# Altium schematic symbol library Schlib1.SchLib: 53 symbols
Pins are listed as number, name and electrical type; pins without a type are passive.

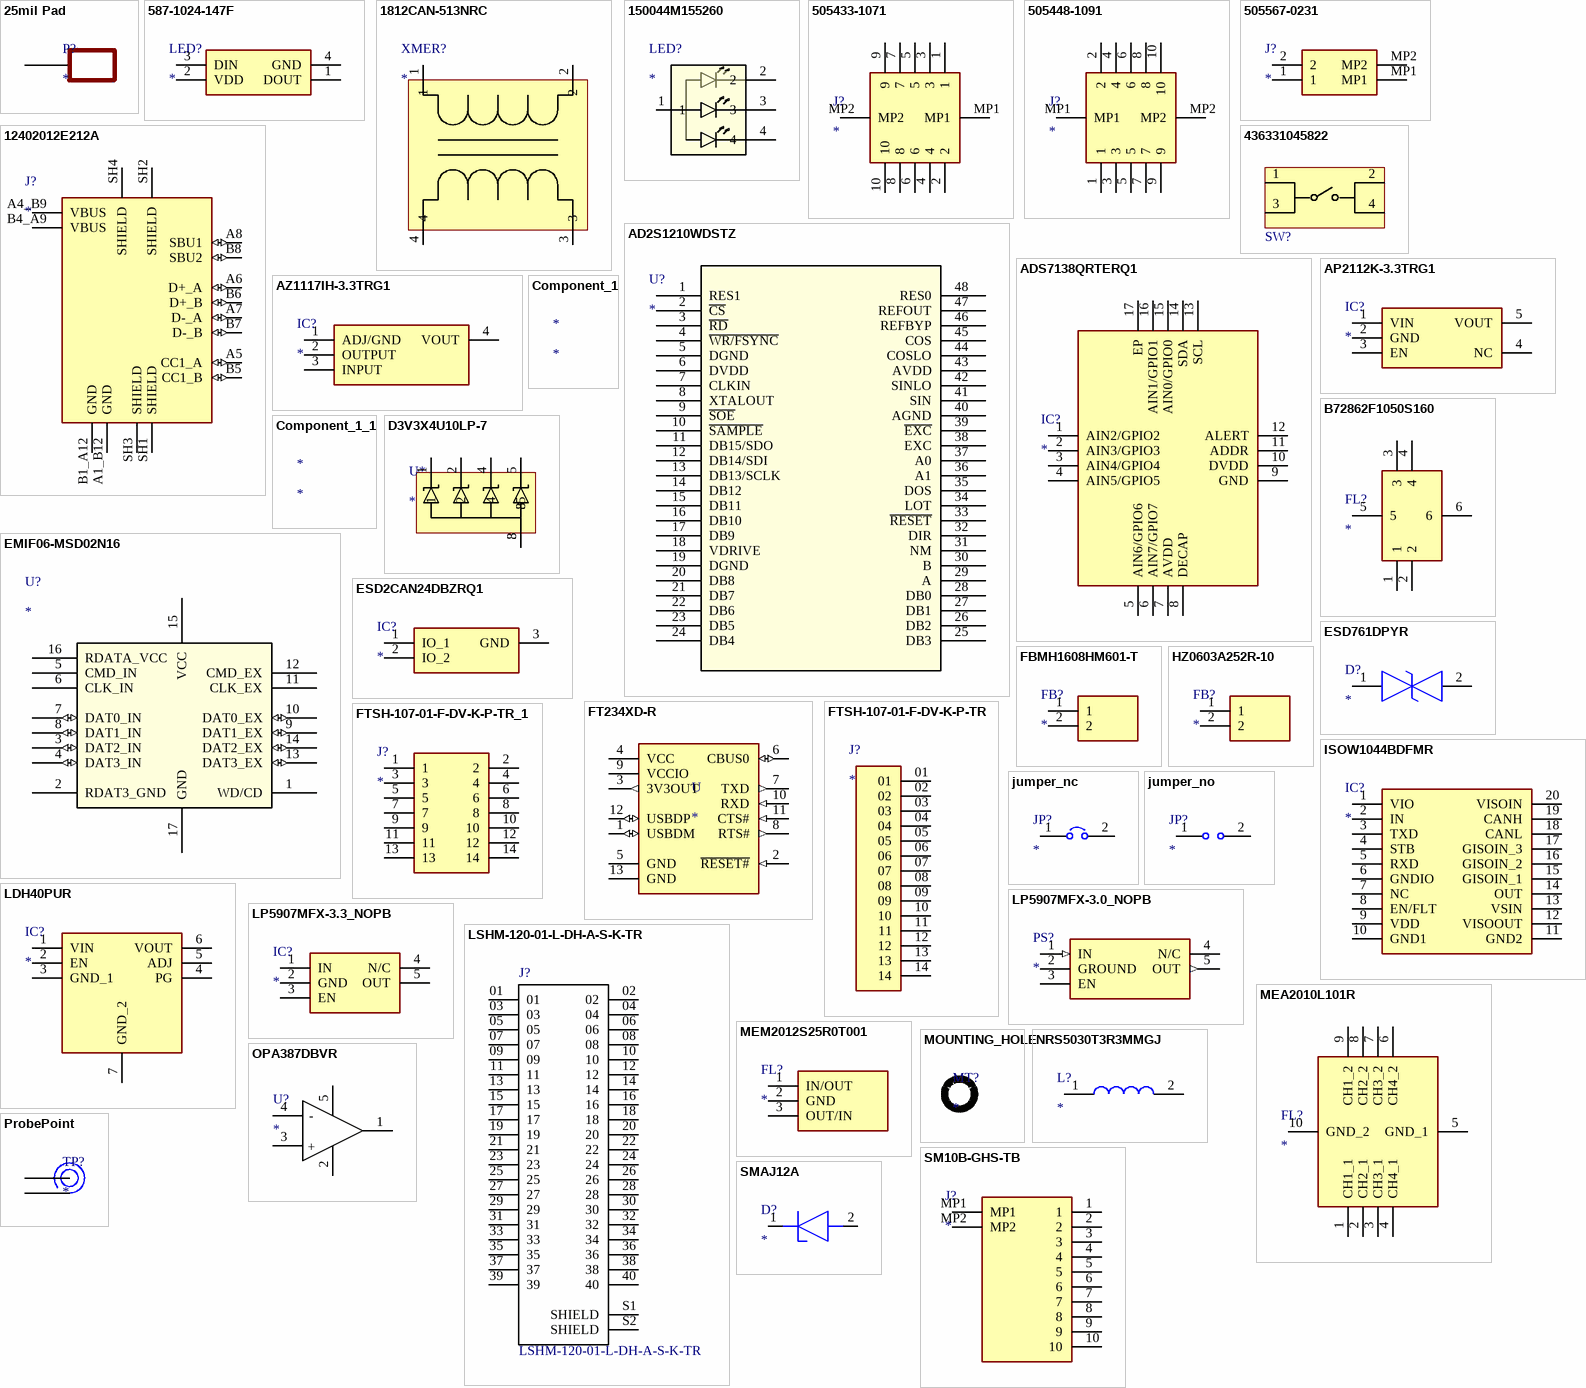
[diagram p0: symbols 25mil Pad to SMAJ12A]

## 25mil Pad
designator P?
footprint PAD
pins: 0

## 587-1024-147F
designator LED?
LED; Manufacturer_Name: Dialight; Manufacturer_Part_Number: 587-1024-147F; Datasheet Link: https://s3-us-west-2.amazonaws.com/catsy.557/Dialight_datasheet_587-1024-147F_Addressable_RGB.pdf; Height: 0.9mm
footprint 5871024147F
pins: 1 DOUT, 2 VDD, 3 DIN, 4 GND

## 1812CAN-513NRC
designator XMER?
No Description Available; Mfr_Name: Coilcraft; RefDes: RefDes; Type: Type
footprint XMER_1812CAN-513NRC_COC
pins: 1, 2, 3, 3, 3, 4

## 150044M155260
designator LED?
No Description Available; Mfr_Name: Wurth Electronics; RefDes: RefDes; Type: Type
footprint 150044M155260_WRE-L - duplicate
pins: 1, 2, 3, 4

## 505433-1071
designator J?
Connector; Manufacturer_Name: Molex; Manufacturer_Part_Number: 505433-1071; Datasheet Link: https://datasheet.datasheetarchive.com/originals/distributors/Datasheets_SAMA/5290a5563f9fde50455cc3ed2129c93a.pdf; Height: 7.25mm; Mouser Part Number: 538-505433-1071; Mouser Price/Stock: https://www.mouser.co.uk/ProductDetail/Molex/505433-1071?qs=gt1LBUVyoHnxbEZbXoNB2g%3D%3D
footprint 5054331071
pins: 1, 2, 3, 4, 5, 6, 7, 8, 9, 10, MP1, MP2

## 505448-1091
designator J?
Connector; Manufacturer_Name: Molex; Manufacturer_Part_Number: 505448-1091; Datasheet Link: https://www.molex.com/content/dam/molex/molex-dot-com/products/automated/en-us/salesdrawingpdf/505/505448/5054481091_sd.pdf; Height: 9.15mm; Mouser Part Number: 538-505448-1091; Mouser Price/Stock: https://www.mouser.co.uk/ProductDetail/Molex/505448-1091?qs=vmHwEFxEFR84Nb6AyJ3SnQ%3D%3D
footprint 5054481091
pins: 1, 2, 3, 4, 5, 6, 7, 8, 9, 10, MP1, MP2

## 505567-0231
designator J?
Connector; Manufacturer_Name: Molex; Manufacturer_Part_Number: 505567-0231; Datasheet Link: https://www.molex.com/pdm_docs/sd/5055670231_sd.pdf; Height: 4.1mm; Mouser Part Number: 538-505567-0231; Mouser Price/Stock: https://www.mouser.co.uk/ProductDetail/Molex/505567-0231?qs=vmHwEFxEFR9FgO9VigwN8A%3D%3D
footprint 5055670231
pins: 1, 2, MP1, MP2

## 12402012E212A
designator J?
USB2.0, Type C, Top mount, CH 1.68mm, Dual Row SMT; MP: 12402012E212A; MF: Amphenol ICC (Commercial Products); Price: None; Package: None; Availability: In Stock; SnapEDA_Link: https://www.snapeda.com/parts/12402012E212A/Amphenol/view-part/?ref=snap; Value: *; Check_prices: https://www.snapeda.com/parts/12402012E212A/Amphenol/view-part/?ref=eda; Purchase-URL: https://pricing.snapeda.com/search/part/12402012E212A/?ref=eda
footprint AMPHENOL_12402012E212A
pins: A1_B12 GND (power), A4_B9 VBUS (power), A5 CC1_A (io), A6 D+_A (io), A7 D-_A (io), A8 SBU1 (io), B1_A12 GND (power), B4_A9 VBUS (power), B5 CC1_B (io), B6 D+_B (io), B7 D-_B (io), B8 SBU2 (io), SH1 SHIELD, SH2 SHIELD, SH3 SHIELD, SH4 SHIELD

## 436331045822
designator SW?  (value not drawn)
footprint Wurth_0_MFG
pins: 1, 2, 3, 4

## AD2S1210WDSTZ
designator U?
No Description Available; Mfr_Name: Analog Devices Inc; RefDes: RefDes; Type: Type
footprint AD2S1210WDSTZ_ADI
pins: 1 RES1, 2 ~{CS}, 3 ~{RD}, 4 ~{WR/FSYNC}, 5 DGND, 6 DVDD, 7 CLKIN, 8 XTALOUT, 9 ~{SOE}, 10 ~{SAMPLE}, 11 DB15/SDO, 12 DB14/SDI, 13 DB13/SCLK, 14 DB12, 15 DB11, 16 DB10, 17 DB9, 18 VDRIVE, 19 DGND, 20 DB8, 21 DB7, 22 DB6, 23 DB5, 24 DB4, 25 DB3, 26 DB2, 27 DB1, 28 DB0, 29 A, 30 B, 31 NM, 32 DIR, 33 ~{RESET}, 34 LOT, 35 DOS, 36 A1, 37 A0, 38 EXC, 39 ~{EXC}, 40 AGND, 41 SIN, 42 SINLO, 43 AVDD, 44 COSLO, 45 COS, 46 REFBYP, 47 REFOUT, 48 RES0

## ADS7138QRTERQ1
designator IC?
Integrated Circuit; Manufacturer_Name: Texas Instruments; Manufacturer_Part_Number: ADS7138QRTERQ1; Datasheet Link: https://www.arrow.com/en/products/ads7138qrterq1/texas-instruments; Height: 0.8mm; Mouser Part Number: 595-ADS7138QRTERQ1; Mouser Price/Stock: https://www.mouser.co.uk/ProductDetail/Texas-Instruments/ADS7138QRTERQ1?qs=T94vaHKWudS4Tv1qZ6show%3D%3D; Arrow Part Number: ADS7138QRTERQ1; Arrow Price/Stock: https://www.arrow.com/en/products/ads7138qrterq1/texas-instruments?region=nac
footprint QFN50P300X300X80-17N-D
pins: 1 AIN2/GPIO2, 2 AIN3/GPIO3, 3 AIN4/GPIO4, 4 AIN5/GPIO5, 5 AIN6/GPIO6, 6 AIN7/GPIO7, 7 AVDD, 8 DECAP, 9 GND, 10 DVDD, 11 ADDR, 12 ALERT, 13 SCL, 14 SDA, 15 AIN0/GPIO0, 16 AIN1/GPIO1, 17 EP

## AP2112K-3.3TRG1
designator IC?
Integrated Circuit; Manufacturer_Name: Diodes Incorporated; Manufacturer_Part_Number: AP2112K-3.3TRG1; Datasheet Link: https://www.diodes.com//assets/Datasheets/AP2112.pdf; Height: 1.4mm; Mouser Part Number: 621-AP2112K-3.3TRG1; Mouser Price/Stock: https://www.mouser.co.uk/ProductDetail/Diodes-Incorporated/AP2112K-3.3TRG1?qs=x6A8l6qLYDDPYHosCdzh%2FA%3D%3D; Arrow Part Number: AP2112K-3.3TRG1; Arrow Price/Stock: https://www.arrow.com/en/products/ap2112k-3.3trg1/diodes-incorporated?region=europe
footprint SOT95P285X140-5N
pins: 1 VIN, 2 GND, 3 EN, 4 NC, 5 VOUT

## AZ1117IH-3.3TRG1
designator IC?
Integrated Circuit; Manufacturer_Name: Diodes Incorporated; Manufacturer_Part_Number: AZ1117IH-3.3TRG1; Datasheet Link: https://www.diodes.com//assets/Datasheets/AZ1117I.pdf; Height: 1.8mm; Mouser Part Number: 621-AZ1117IH-3.3TRG1; Mouser Price/Stock: https://www.mouser.co.uk/ProductDetail/Diodes-Incorporated/AZ1117IH-3.3TRG1?qs=cpo3%2FpBou2jnS4SxLgAVoA%3D%3D; Arrow Part Number: AZ1117IH-3.3TRG1; Arrow Price/Stock: https://www.arrow.com/en/products/az1117ih-3.3trg1/diodes-incorporated?utm_currency=USD&region=europe
footprint SOT230P700X180-4N
pins: 1 ADJ/GND, 2 OUTPUT, 3 INPUT, 4 VOUT

## B72862F1050S160
designator FL?
Filter; Manufacturer_Name: TDK; Manufacturer_Part_Number: B72862F1050S160; Datasheet Link: https://product.tdk.com/system/files/dam/doc/product/protection/voltage/varistor_ctvs/data_sheet/75/db/ctvs_14/esd_emi_filter_series.pdf; Height: 0.65mm
footprint B72862F1050S160
pins: 1, 2, 3, 4, 5, 6

## Component_1
designator *

## Component_1_1
designator *

## D3V3X4U10LP-7
designator U*
footprint DIO_DT1240-04LP-7
pins: 1, 2, 3, 4, 5, 8

## EMIF06-MSD02N16
designator U?
No Description Available; Mfr_Name: STMicroelectronics; RefDes: RefDes; Type: Type
footprint EMIF06MSD02N16
pins: 1 WD/CD, 2 RDAT3_GND (power), 3 DAT2_IN (io), 4 DAT3_IN (io), 5 CMD_IN, 6 CLK_IN, 7 DAT0_IN (io), 8 DAT1_IN (io), 9 DAT1_EX (io), 10 DAT0_EX (io), 11 CLK_EX, 12 CMD_EX, 13 DAT3_EX (io), 14 DAT2_EX (io), 15 VCC (power), 16 RDATA_VCC, 17 GND (power)

## ESD2CAN24DBZRQ1
designator IC?
Integrated Circuit; Manufacturer_Name: Texas Instruments; Manufacturer_Part_Number: ESD2CAN24DBZRQ1; Datasheet Link: https://www.ti.com/lit/ds/symlink/esd2can24-q1.pdf?ts=1669637432096&ref_url=https%253A%252F%252Fwww.ti.com%252Fproduct%252FESD2CAN24-Q1; Height: 1.12mm; Mouser Part Number: 595-ESD2CAN24DBZRQ1; Mouser Price/Stock: https://www.mouser.co.uk/ProductDetail/Texas-Instruments/ESD2CAN24DBZRQ1?qs=Y0Uzf4wQF3knJz9mU6BNuw%3D%3D; Arrow Part Number: ESD2CAN24DBZRQ1; Arrow Price/Stock: https://www.arrow.com/en/products/esd2can24dbzrq1/texas-instruments?utm_currency=USD&region=nac
footprint SOT95P237X112-3N
pins: 1 IO_1, 2 IO_2, 3 GND

## ESD761DPYR
designator D?
TVS Diode (Bi-directional); Manufacturer_Name: Texas Instruments; Manufacturer_Part_Number: ESD761DPYR; Datasheet Link: https://www.ti.com/lit/gpn/esd761; Height: 0.45mm; Mouser Part Number: 595-ESD761DPYR; Mouser Price/Stock: https://www.mouser.co.uk/ProductDetail/Texas-Instruments/ESD761DPYR?qs=rQFj71Wb1eUSXtGpLU8xBg%3D%3D; Arrow Part Number: ESD761DPYR; Arrow Price/Stock: https://www.arrow.com/en/products/esd761dpyr/texas-instruments?utm_currency=USD&region=nac
footprint ESD761DPYR
pins: 1, 2

## FBMH1608HM601-T
designator FB?
Ferrite Bead; Manufacturer_Name: TAIYO YUDEN; Manufacturer_Part_Number: FBMH1608HM601-T; Datasheet Link: https://componentsearchengine.com/Datasheets/2/FBMH1608HM601-T.pdf; Height: 0.9mm; Mouser Part Number: 963-FBMH1608HM601-T; Mouser Price/Stock: https://www.mouser.co.uk/ProductDetail/TAIYO-YUDEN/FBMH1608HM601-T?qs=I6KAKw0tg2y6O4cu0afp%252BA%3D%3D; Arrow Part Number: FBMH1608HM601-T; Arrow Price/Stock: https://www.arrow.com/en/products/fbmh1608hm601-t/taiyo-yuden
footprint BEADC1608X90N
pins: 1, 2

## FT234XD-R
designator U
USB Bridge, USB to UART USB 2.0 UART Interface 12-DFN _3x3_; MP: FT234XD-R; MF: FTDI,; SnapEDA_Link: https://www.snapeda.com/parts/FT234XD-R/FTDI,%20Future%20Technology%20Devices%20International%20Ltd/view-part/207972/?ref=snap; Package: DFN-12 FTDI; Price: None; Value: *; Availability: Unavailable
footprint SON45P300X300X75-13N-D
pins: 1 USBDM (io), 2 ~{RESET#} (in), 3 3V3OUT (out), 4 VCC (power), 5 GND (power), 6 CBUS0 (io), 7 TXD (out), 8 RTS# (out), 9 VCCIO (power), 10 RXD (in), 11 CTS# (in), 12 USBDP (io), 13 GND (power)

## FTSH-107-01-F-DV-K-P-TR
designator J?
MP: FTSH-107-01-F-DV-K-P-TR; MF: Samtec; Price: None; Availability: Unavailable; Package: None; Value: *
footprint FTSH-107-XX-YYY-DV-K-P-TR
pins: 01, 02, 03, 04, 05, 06, 07, 08, 09, 10, 11, 12, 13, 14

## FTSH-107-01-F-DV-K-P-TR_1
designator J?
Connector; Manufacturer_Name: SAMTEC; Manufacturer_Part_Number: FTSH-107-01-F-DV-K-P-TR; Datasheet Link: http://suddendocs.samtec.com/prints/ftsh-1xx-xx-xxx-dv-xxx-xxx-mkt.pdf; Mouser Part Number: 200-FTSH10701FDVKPTR; Mouser Price/Stock: https://www.mouser.co.uk/ProductDetail/Samtec/FTSH-107-01-F-DV-K-P-TR?qs=%252BZP6%2F%252BtExtAI0atx6lcXTg%3D%3D; Arrow Part Number: FTSH-107-01-F-DV-K-P-TR; Arrow Price/Stock: https://www.arrow.com/en/products/ftsh-107-01-f-dv-k-p-tr/samtec?region=nac
footprint FTSH-107-XX-YYY-DV-K-P-TR
pins: 1, 2, 3, 4, 5, 6, 7, 8, 9, 10, 11, 12, 13, 14

## HZ0603A252R-10
designator FB?
Ferrite Bead; Manufacturer_Name: Laird Performance Materials; Manufacturer_Part_Number: HZ0603A252R-10; Datasheet Link: https://componentsearchengine.com/Datasheets/1/HZ0603A252R-10.pdf; Height: 0.95mm; Mouser Part Number: 875-HZ0603A252R-10; Mouser Price/Stock: https://www.mouser.co.uk/ProductDetail/Laird-Performance-Materials/HZ0603A252R-10?qs=D%252B9bHg9FvUOIwh1ifAKqqw%3D%3D
footprint BEADC1608X95N
pins: 1, 2

## ISOW1044BDFMR
designator IC?
Integrated Circuit; Manufacturer_Name: Texas Instruments; Manufacturer_Part_Number: ISOW1044BDFMR; Datasheet Link: https://www.ti.com/lit/ds/symlink/isow1044.pdf?ts=1645295421849&ref_url=https%253A%252F%252Fwww.google.com%252F; Height: 3.55mm; Mouser Part Number: 595-ISOW1044BDFMR; Mouser Price/Stock: https://www.mouser.co.uk/ProductDetail/Texas-Instruments/ISOW1044BDFMR?qs=Li%252BoUPsLEnsRP1xV2fQwnw%3D%3D; Arrow Part Number: ISOW1044BDFMR; Arrow Price/Stock: https://www.arrow.com/en/products/isow1044bdfmr/texas-instruments?utm_currency=USD&region=nac
footprint SOIC127P1030X355-20N
pins: 1 VIO, 2 IN, 3 TXD, 4 STB, 5 RXD, 6 GNDIO, 7 NC, 8 EN/FLT, 9 VDD, 10 GND1, 11 GND2, 12 VISOOUT, 13 VSIN, 14 OUT, 15 GISOIN_1, 16 GISOIN_2, 17 GISOIN_3, 18 CANL, 19 CANH, 20 VISOIN

## jumper_nc
designator JP?
footprint jumper_nc
pins: 1, 2

## jumper_no
designator JP?
footprint jumper_no
pins: 1, 2

## LDH40PUR
designator IC?
Integrated Circuit; Manufacturer_Name: STMicroelectronics; Manufacturer_Part_Number: LDH40PUR; Description: PMIC - Regolatori di tensione - Lineari Positivo Regolabile 1 Uscita 200mA 6-DFN (2x2); Datasheet Link: https://www.st.com/resource/en/datasheet/ldh40.pdf; Height: 0.8mm
footprint SON65P200X200X80-7N
pins: 1 VIN, 2 EN, 3 GND_1, 4 PG, 5 ADJ, 6 VOUT, 7 GND_2

## LP5907MFX-3.0_NOPB
designator PS?
Power Supply; Manufacturer_Name: Texas Instruments; Manufacturer_Part_Number: LP5907MFX-3.0/NOPB; Datasheet Link: http://www.ti.com/lit/gpn/lp5907; Height: 1.45mm; Mouser Part Number: 595-LP5907MFX-3.0NPB; Mouser Price/Stock: https://www.mouser.co.uk/ProductDetail/Texas-Instruments/LP5907MFX-3.0-NOPB?qs=biyDIajrTn4AH69D%252B0PS1g%3D%3D; Arrow Part Number: LP5907MFX-3.0/NOPB; Arrow Price/Stock: https://www.arrow.com/en/products/lp5907mfx-3.0nopb/texas-instruments?utm_currency=USD&region=nac
footprint SOT95P280X145-5N
pins: 1 IN (in), 2 GROUND (power), 3 EN, 4 N/C, 5 OUT (out)

## LP5907MFX-3.3_NOPB
designator IC?
Integrated Circuit; Manufacturer_Name: Texas Instruments; Manufacturer_Part_Number: LP5907MFX-3.3/NOPB; Datasheet Link: https://datasheet.datasheetarchive.com/originals/distributors/Datasheets-SFU2/DSASFU100037200.pdf; Height: 1.45mm; Mouser Part Number: 595-LP5907MFX-3.3NPB; Mouser Price/Stock: https://www.mouser.co.uk/ProductDetail/Texas-Instruments/LP5907MFX-3.3-NOPB?qs=biyDIajrTn6NhrJCoL%2FdSQ%3D%3D; Arrow Part Number: LP5907MFX-3.3/NOPB; Arrow Price/Stock: https://www.arrow.com/en/products/lp5907mfx-3.3nopb/texas-instruments?utm_currency=USD&region=nac
footprint SOT95P280X145-5N
pins: 1 IN, 2 GND, 3 EN, 4 N/C, 5 OUT

## LSHM-120-01-L-DH-A-S-K-TR
designator J?
Value: *
footprint *SAMTEC_LSHM-120-01-L-DH-A-S-K-TR_LSHM-120-01-L-DH-A-S-K-TR(Primary)
pins: 01, 02, 03, 04, 05, 06, 07, 08, 09, 10, 11, 12, 13, 14, 15, 16, 17, 18, 19, 20, 21, 22, 23, 24, 25, 26, 27, 28, 29, 30, 31, 32, 33, 34, 35, 36, 37, 38, 39, 40, S1 SHIELD, S2 SHIELD

## MEA2010L101R
designator FL?
Filter; Manufacturer_Name: TDK; Manufacturer_Part_Number: MEA2010L101R; Datasheet Link: https://product.tdk.com/info/en/catalog/datasheets/3tf_commercial_signal_mea2010l_en.pdf; Height: 0.8mm; Mouser Part Number: 810-MEA2010L101R; Mouser Price/Stock: https://www.mouser.com/Search/Refine.aspx?Keyword=810-MEA2010L101R
footprint MEA2010L101R
pins: 1 CH1_1, 2 CH2_1, 3 CH3_1, 4 CH4_1, 5 GND_1, 6 CH4_2, 7 CH3_2, 8 CH2_2, 9 CH1_2, 10 GND_2

## MEM2012S25R0T001
designator FL?
Filter; Manufacturer_Name: TDK; Manufacturer_Part_Number: MEM2012S25R0T001; Datasheet Link: https://product.tdk.com/system/files/dam/doc/product/emc/emc/3tf/catalog/3tf_commercial_signal_mem2012s_en.pdf; Height: 1mm; Mouser Part Number: 810-MEM2012S25R0T001; Mouser Price/Stock: https://www.mouser.co.uk/ProductDetail/TDK/MEM2012S25R0T001?qs=uxmvvYJjMIvgfrdEOPTgFw%3D%3D; Arrow Part Number: MEM2012S25R0T001; Arrow Price/Stock: https://www.arrow.com/en/products/mem2012s25r0t001/tdk?region=nac
footprint MEM2012S25R0T001
pins: 1 IN/OUT, 2 GND, 3 OUT/IN

## MOUNTING_HOLE
designator MT?
Generic Mounting Hole
footprint MountingHole_3mm

## NRS5030T3R3MMGJ
designator L?
Inductor; Manufacturer_Name: TAIYO YUDEN; Manufacturer_Part_Number: NRS5030T3R3MMGJ; Datasheet Link: https://datasheet.datasheetarchive.com/originals/distributors/Datasheets-DGA11/2227925.pdf; Height: 3.3mm; Mouser Part Number: 963-NRS5030T3R3MMGJ; Mouser Price/Stock: https://www.mouser.co.uk/ProductDetail/TAIYO-YUDEN/NRS5030T3R3MMGJ?qs=CNQs48zzdnrswI8nrL9nYw%3D%3D; Arrow Part Number: NRS5030T3R3MMGJ; Arrow Price/Stock: https://www.arrow.com/en/products/nrs5030t3r3mmgj/taiyo-yuden?region=nac
footprint INDC4949X330N
pins: 1, 2

## OPA387DBVR
designator U?
No Description Available; Mfr_Name: Texas Instruments; TYPE: TYPE; RefDes: RefDes
footprint DBV0005A-IPC_C
pins: 1 OUT, 2 V- (power), 3 +IN (hiz), 4 -IN (hiz), 5 V+ (power)
text: -; +

## ProbePoint
designator TP?
footprint ProbePoint
pins: 1, 2

## SM10B-GHS-TB
designator J?
Connector; Manufacturer_Name: 3D SYSTEMS; Manufacturer_Part_Number: SM10B-GHS-TB; Datasheet Link: https://4donline.ihs.com/images/VipMasterIC/IC/JSTM/JSTMS02184/JSTMS02184-1.pdf?hkey=EF798316E3902B6ED9A73243A3159BB0; Height: 4.25mm
footprint SM10BGHSTB
pins: 1, 2, 3, 4, 5, 6, 7, 8, 9, 10, MP1, MP2

## SMAJ12A
designator D?
Diode ESD (Uni-directional); Manufacturer_Name: LITTELFUSE; Manufacturer_Part_Number: SMAJ12A; Datasheet Link: https://www.littelfuse.com/~/media/electronics/datasheets/tvs_diodes/littelfuse_tvs_diode_smaj_datasheet.pdf.pdf; Height: 2.29mm; Mouser Part Number: 576-SMAJ12A; Mouser Price/Stock: https://www.mouser.co.uk/ProductDetail/Littelfuse/SMAJ12A?qs=HR2RnyOI4E63xEASay2NCQ%3D%3D; Arrow Part Number: SMAJ12A; Arrow Price/Stock: https://www.arrow.com/en/products/smaj12a/littelfuse?region=europe
footprint DIOM5127X229N
pins: 1 K, 2 A

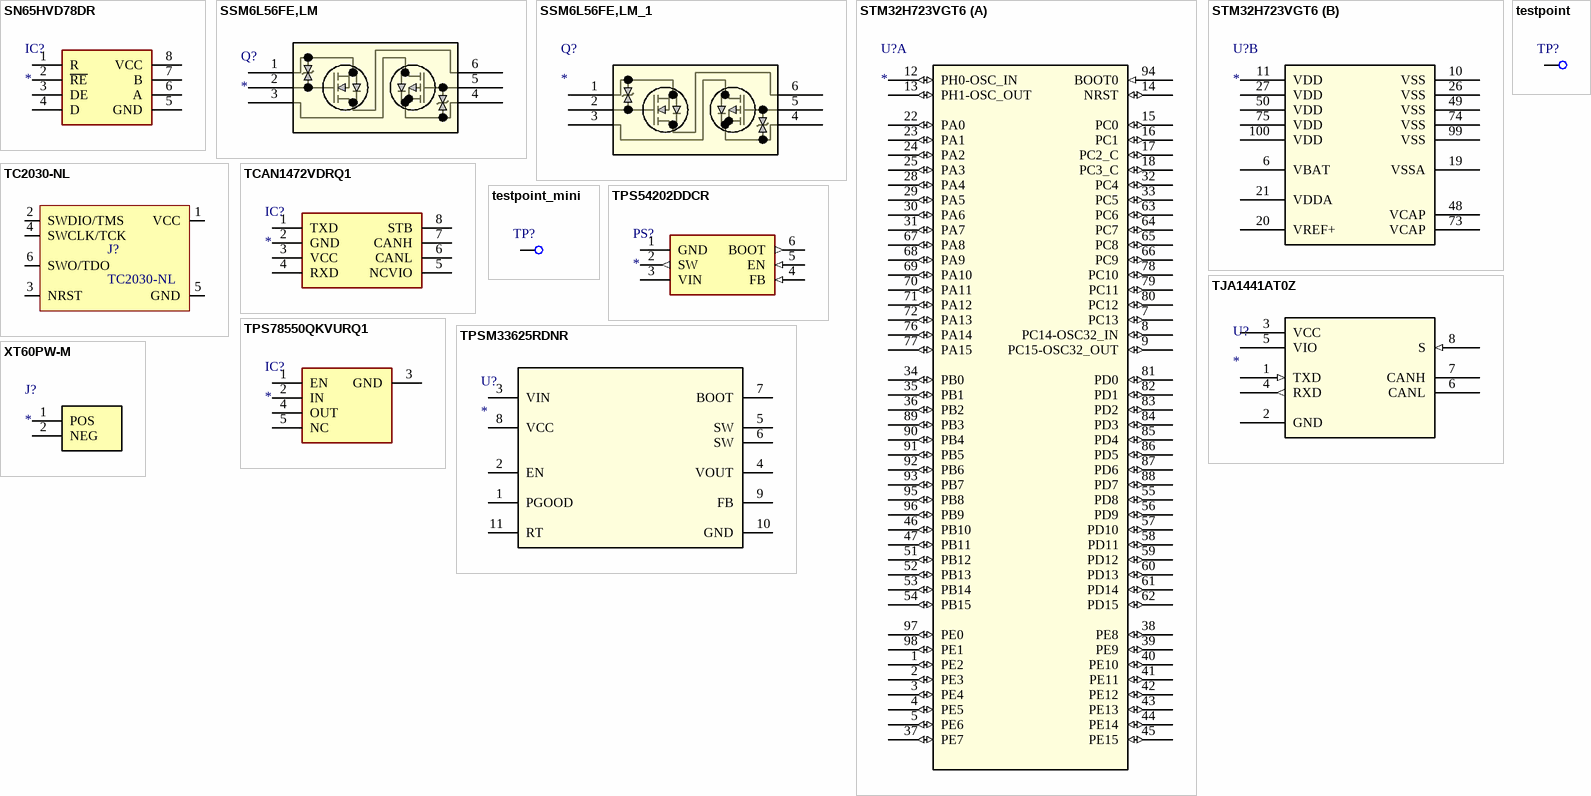
[diagram p1: symbols SN65HVD78DR to XT60PW-M]

## SN65HVD78DR
designator IC?
Integrated Circuit; Manufacturer_Name: Texas Instruments; Manufacturer_Part_Number: SN65HVD78DR; Datasheet Link: http://www.ti.com/lit/gpn/sn65hvd78; Height: 1.75mm; Mouser Part Number: 595-SN65HVD78DR; Mouser Price/Stock: https://www.mouser.co.uk/ProductDetail/Texas-Instruments/SN65HVD78DR?qs=GIZt7gVh5wSQImLM3RD5ag%3D%3D; Arrow Part Number: SN65HVD78DR; Arrow Price/Stock: https://www.arrow.com/en/products/sn65hvd78dr/texas-instruments?region=nac
footprint SOIC127P600X175-8N
pins: 1 R, 2 ~{RE}, 3 DE, 4 D, 5 GND, 6 A, 7 B, 8 VCC

## SSM6L56FE,LM
designator Q?
No Description Available; Mfr_Name: Toshiba Electronic Devices & Storage Corp.; RefDes: RefDes; Type: Type
footprint SOT-563ES6_TOS
pins: 1, 2, 3, 4, 5, 6

## SSM6L56FE,LM_1
designator Q?
No Description Available; Mfr_Name: Toshiba Electronic Devices & Storage Corp.; RefDes: RefDes; Type: Type
footprint SOT-563ES6_TOS
pins: 1, 2, 3, 4, 5, 6

## STM32H723VGT6
designator U?
No Description Available; Mfr_Name: STMicroelectronics; RefDes: RefDes; Type: Type
footprint LQFP100_STM
part A pins: 1 PE2 (io), 2 PE3 (io), 3 PE4 (io), 4 PE5 (io), 5 PE6 (io), 7 PC13 (io), 8 PC14-OSC32_IN (io), 9 PC15-OSC32_OUT (io), 12 PH0-OSC_IN (io), 13 PH1-OSC_OUT (io), 14 NRST (io), 15 PC0 (io), 16 PC1 (io), 17 PC2_C (io), 18 PC3_C (io), 22 PA0 (io), 23 PA1 (io), 24 PA2 (io), 25 PA3 (io), 28 PA4 (io), 29 PA5 (io), 30 PA6 (io), 31 PA7 (io), 32 PC4 (io), 33 PC5 (io), 34 PB0 (io), 35 PB1 (io), 36 PB2 (io), 37 PE7 (io), 38 PE8 (io), 39 PE9 (io), 40 PE10 (io), 41 PE11 (io), 42 PE12 (io), 43 PE13 (io), 44 PE14 (io), 45 PE15 (io), 46 PB10 (io), 47 PB11 (io), 51 PB12 (io), 52 PB13 (io), 53 PB14 (io), 54 PB15 (io), 55 PD8 (io), 56 PD9 (io), 57 PD10 (io), 58 PD11 (io), 59 PD12 (io), 60 PD13 (io), 61 PD14 (io), 62 PD15 (io), 63 PC6 (io), 64 PC7 (io), 65 PC8 (io), 66 PC9 (io), 67 PA8 (io), 68 PA9 (io), 69 PA10 (io), 70 PA11 (io), 71 PA12 (io), 72 PA13 (io), 76 PA14 (io), 77 PA15 (io), 78 PC10 (io), 79 PC11 (io), 80 PC12 (io), 81 PD0 (io), 82 PD1 (io), 83 PD2 (io), 84 PD3 (io), 85 PD4 (io), 86 PD5 (io), 87 PD6 (io), 88 PD7 (io), 89 PB3 (io), 90 PB4 (io), 91 PB5 (io), 92 PB6 (io), 93 PB7 (io), 94 BOOT0 (in), 95 PB8 (io), 96 PB9 (io), 97 PE0 (io), 98 PE1 (io)
part B pins: 6 VBAT (power), 10 VSS (power), 11 VDD (power), 19 VSSA (power), 20 VREF+ (power), 21 VDDA (power), 26 VSS (power), 27 VDD (power), 48 VCAP (power), 49 VSS (power), 50 VDD (power), 73 VCAP (power), 74 VSS (power), 75 VDD (power), 99 VSS (power), 100 VDD (power)

## TC2030-NL
designator J?  (no BOM)
Tag-Connect No-Solder SWD Debug Connector (No Legs) DO NOT PLACE; Manufacturer Part Number: TC2030-NL-FP; Manufacturer: Tag-Connect
footprint TC2030-NL-FP
pins: 1 VCC, 2 SWDIO/TMS, 3 NRST, 4 SWCLK/TCK, 5 GND, 6 SWO/TDO

## TCAN1472VDRQ1
designator IC?
Integrated Circuit; Manufacturer_Name: Texas Instruments; Manufacturer_Part_Number: TCAN1472VDRQ1; Datasheet Link: https://www.ti.com/lit/ds/symlink/tcan1472-q1.pdf; Height: 1.75mm; Mouser Part Number: 595-TCAN1472VDRQ1; Mouser Price/Stock: https://www.mouser.co.uk/ProductDetail/Texas-Instruments/TCAN1472VDRQ1?qs=7%2F6SraaimPTs1XgFSA%2FENg%3D%3D
footprint SOIC127P600X175-8N
pins: 1 TXD, 2 GND, 3 VCC, 4 RXD, 5 NCVIO, 6 CANL, 7 CANH, 8 STB

## testpoint
designator TP?  (value not drawn)
Testpoint
footprint testpoint1_5mm
pins: 1

## testpoint_mini
designator TP?  (value not drawn)
Testpoint
footprint testpoint_75mm
pins: 1

## TJA1441AT0Z
designator U?
No Description Available; Mfr_Name: NXP; RefDes: RefDes; Type: Type
footprint SO8_SOT96-1_NXP-M
pins: 1 TXD (in), 2 GND (power), 3 VCC (power), 4 RXD (out), 5 VIO (power), 6 CANL, 7 CANH, 8 S (in)

## TPS54202DDCR
designator PS?
Power Supply; Manufacturer_Name: Texas Instruments; Manufacturer_Part_Number: TPS54202DDCR; Datasheet Link: http://www.ti.com/lit/gpn/tps54202; Height: 1.1mm; Mouser Part Number: 595-TPS54202DDCR; Mouser Price/Stock: https://www.mouser.co.uk/ProductDetail/Texas-Instruments/TPS54202DDCR?qs=uP22XH7NdCsJtN%2Fq54jCtQ%3D%3D; Arrow Part Number: TPS54202DDCR; Arrow Price/Stock: https://www.arrow.com/en/products/tps54202ddcr/texas-instruments?utm_currency=USD&region=europe
footprint SOT95P280X110-6N
pins: 1 GND (power), 2 SW (out), 3 VIN (power), 4 FB (in), 5 EN (in), 6 BOOT (out)

## TPS78550QKVURQ1
designator IC?
Integrated Circuit; Manufacturer_Name: Texas Instruments; Manufacturer_Part_Number: TPS78550QKVURQ1; Datasheet Link: https://www.ti.com/lit/gpn/tps785-q1; Height: 2.52mm; Mouser Part Number: 595-TPS78550QKVURQ1; Mouser Price/Stock: https://www.mouser.co.uk/ProductDetail/Texas-Instruments/TPS78550QKVURQ1?qs=iLbezkQI%252BsjGUi0b5lPjaA%3D%3D; Arrow Part Number: TPS78550QKVURQ1; Arrow Price/Stock: https://www.arrow.com/en/products/tps78550qkvurq1/texas-instruments?region=nac
footprint TPS78550QKVURQ1
pins: 1 EN, 2 IN, 3 GND, 4 OUT, 5 NC

## TPSM33625RDNR
designator U?
No Description Available; Mfr_Name: Texas Instruments; TYPE: TYPE; RefDes: RefDes
footprint RDN0011A-MFG
pins: 1 PGOOD (oc), 2 EN (power), 3 VIN (power), 4 VOUT (power), 5 SW, 6 SW, 7 BOOT, 8 VCC, 9 FB, 10 GND (power), 11 RT

## XT60PW-M
designator J?
Socket, DC supply, male, PIN: 2; MF: AMASS; MP: XT60PW-M; Check_prices: https://www.snapeda.com/parts/XT60PW-M/AMASS/view-part/?ref=eda; SnapEDA_Link: https://www.snapeda.com/parts/XT60PW-M/AMASS/view-part/?ref=snap; Price: None; Availability: Not in stock; Package: Package; Value: *
footprint AMASS_XT60PW-M
pins: 1 POS, 2 NEG